# Altium schematic symbol library ADV7180.SchLib: 1 symbol
Pins are listed as number, name and electrical type; pins without a type are passive.

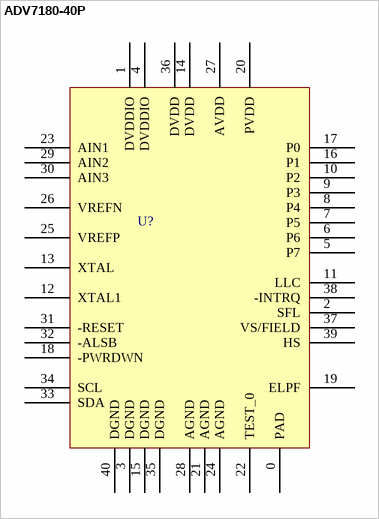
[diagram p0: symbol ADV7180-40P]

## ADV7180-40P
designator U?  (value not drawn)
footprint ADV7180 - 40LFCSP
pins: 0 PAD, 1 DVDDIO, 2 SFL, 3 DGND, 4 DVDDIO, 5 P7, 6 P6, 7 P5, 8 P4, 9 P3, 10 P2, 11 LLC, 12 XTAL1, 13 XTAL, 14 DVDD, 15 DGND, 16 P1, 17 P0, 18 -PWRDWN, 19 ELPF, 20 PVDD, 21 AGND, 22 TEST_0, 23 AIN1, 24 AGND, 25 VREFP, 26 VREFN, 27 AVDD, 28 AGND, 29 AIN2, 30 AIN3, 31 -RESET, 32 -ALSB, 33 SDA, 34 SCL, 35 DGND, 36 DVDD, 37 VS/FIELD, 38 -INTRQ, 39 HS, 40 DGND